# Altium schematic symbol library DGD0215.Schlib: 1 symbol
Pins are listed as number, name and electrical type; pins without a type are passive.

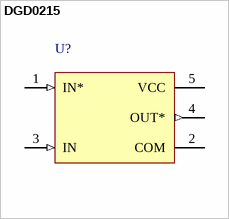
[diagram p0: symbol DGD0215]

## DGD0215
designator U?
1.5A HIGH SPEED SINGLE LOW SIDE GATE DRIVER
pins: 1 IN* (in), 2 COM (power), 3 IN (in), 4 OUT* (out), 5 VCC (power)